# Altium footprint library IC's.PcbLib: 37 footprints (part 2 of 3)
Each footprint in its own frame and in the unit in brackets; x right, y up, seen from the top. Pads: shape width x height; smd on the part's side, far side on the other; paste and mask are expansions set on the pad; w line width, h text height; cw(c..) or ccw(c..) is an arc to the next point about the centre after c.
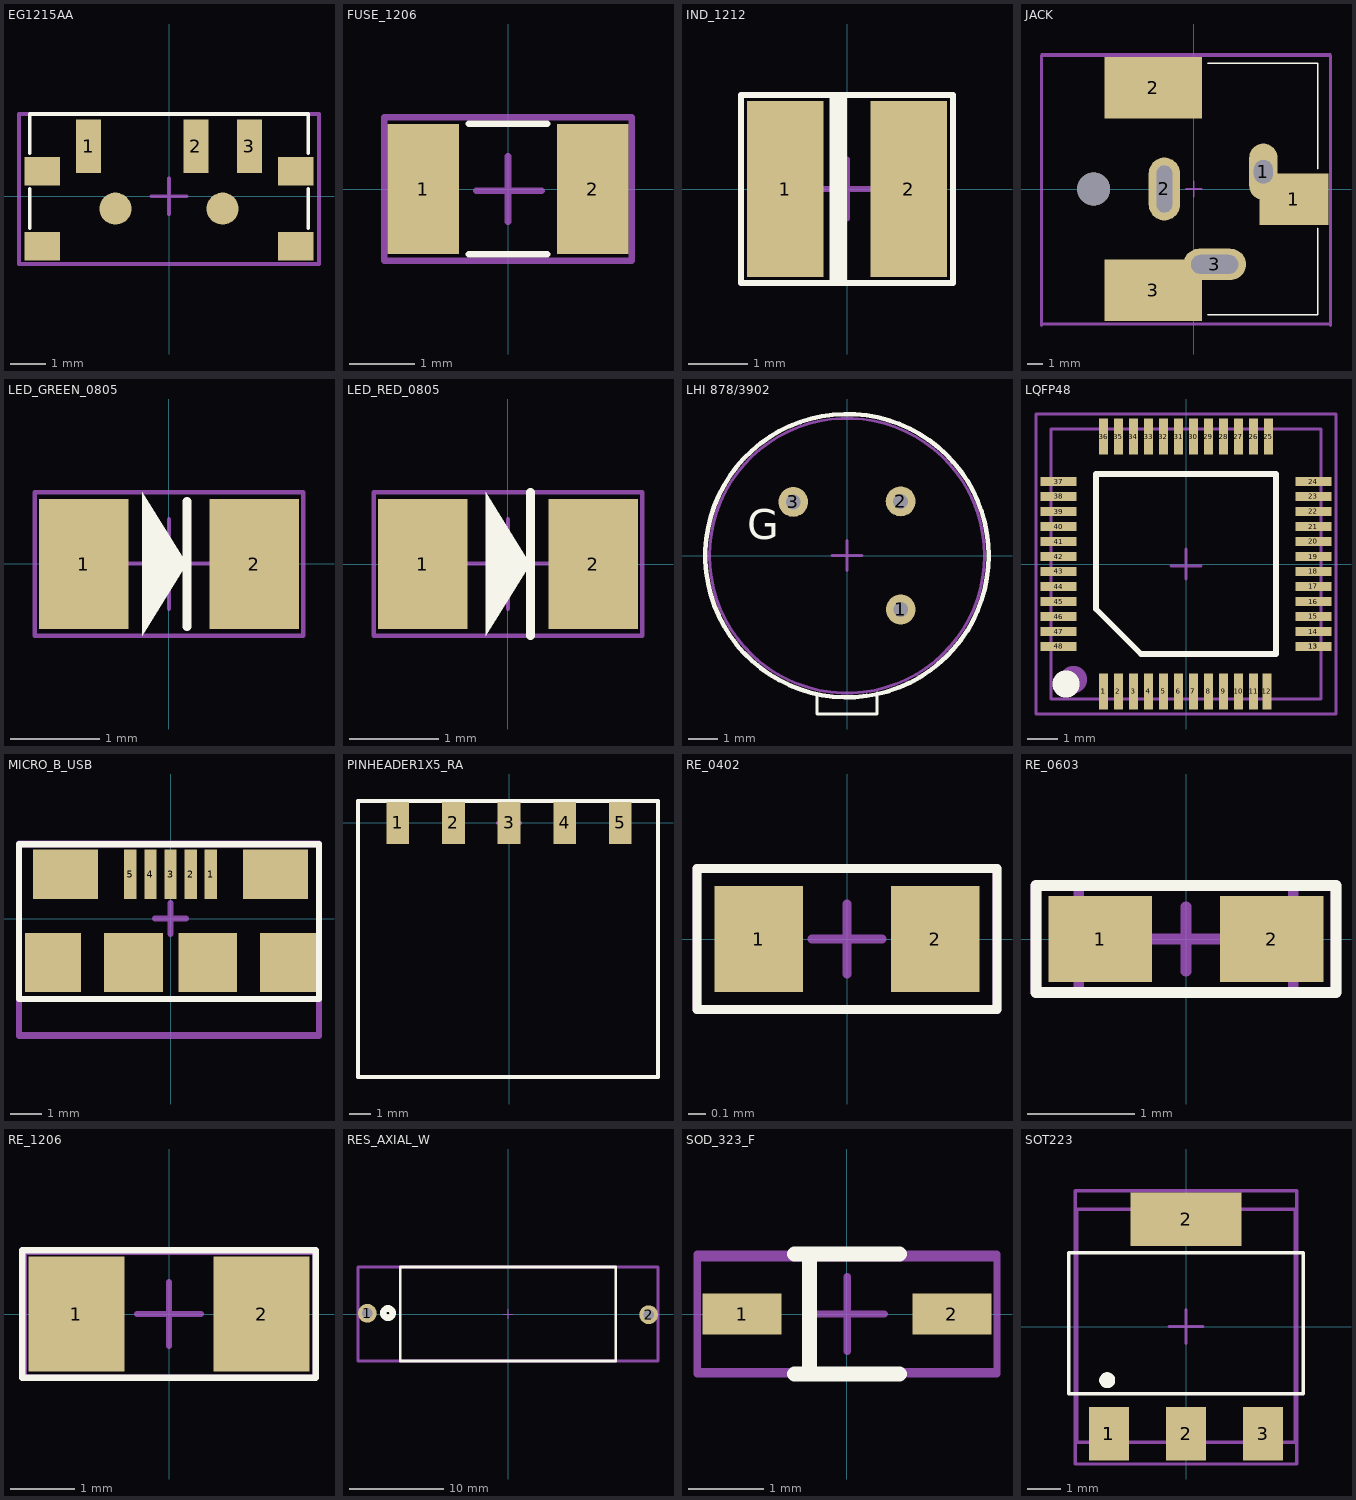
[diagram p1: the footprints below, top view; thin cyan lines are the x and y axes]

## EG1215AA [mm]
pads (9):
  rect 0.7x1.5 smd mask+0.05: 1(-2.25,1.4) 2(0.75,1.4) 3(2.25,1.4)
  rect 1x0.8 smd mask+0.05: ""(-3.55,-1.4) ""(-3.55,0.7) ""(3.55,-1.4) ""(3.55,0.7)
  round 0.9 all layers, no hole mask+0.05: ""(-1.5,-0.35) ""(1.5,-0.35)
Top Overlay:
  lines w0.1: -3.9,-0.9 -3.9,0.2 ; -3.9,1.2 -3.9,2.3 -2.3,2.3 0.1,2.3 2.3,2.3 3.9,2.3 3.9,1.2 ; 3.9,-0.9 3.9,0.2
Top Component Center:
  lines w0.1: -0.5,0 0.5,0 ; 0,-0.5 0,0.5 ; -4.2,-1.9 4.2,-1.9 4.2,2.3 -4.2,2.3 -4.2,-1.9
Top Designator:
  lines w0.1: -4.2,-1.9 4.2,-1.9 4.2,2.3 -4.2,2.3 -4.2,-1.9
  text ".Designator" at -1.246,-0.738 h1.52
3D body "EG1215AA.STEP": height 1.5, standoff -0.2, extent -3.85,-3 3.85,1.9

## FUSE_1206 [mm]
pads (2):
  rect 1.1x2 smd mask+0.05: 1(-1.3,0) 2(1.3,0)
Top Overlay:
  lines w0.1: -0.6,-1 0.6,-1 ; -0.6,1 0.6,1
Top Component Center:
  lines w0.1: -0.486,-0.024 0.514,-0.024 ; 0,-0.5 0,0.5 ; -1.9,-1.1 1.9,-1.1 1.9,1.1 -1.9,1.1 -1.9,-1.1
Top Designator:
  lines w0.1: -1.9,-1.1 1.9,-1.1 1.9,1.1 -1.9,1.1 -1.9,-1.1
3D body "FUSE_1206.step": height 0.61, standoff 0, extent -1.55,-0.775 1.55,0.775

## IND_1212 [mm]
pads (2):
  rect 1.3x3 smd mask+0.05: 1(-1.05,0) 2(1.05,0)
Top Overlay:
  rectangle: -0.3,-1.6 0,1.6
  lines w0.1: -1.8,-1.6 1.8,-1.6 1.8,1.6 -1.8,1.6 -1.8,-1.6
Top Component Center:
  lines w0.1: -0.5,0 0.5,0 ; 0,-0.5 0,0.5 ; -1.8,-1.6 1.8,-1.6 1.8,1.6 -1.8,1.6 -1.8,-1.6
Top Designator:
  lines w0.1: -1.8,-1.6 1.8,-1.6 1.8,1.6 -1.8,1.6 -1.8,-1.6
  text ".Designator" at -0.8,-0.35 h0.75
3D body "IND_1212.STEP": height 1.5, standoff 0, extent -1.5,-1.5 1.5,1.5

## JACK [mm]
pads (7):
  oval 1.8x3.6 hole 1.2 slot 1.5 at 90 deg: 1(4.425,1.1)
  rect 4.4x3.3 smd: 1(6.375,-0.65)
  rect 6.2x3.9 smd: 2(-2.575,6.45) 3(-2.575,-6.45)
  oval 2x4 hole 1 slot 3 at 90 deg: 2(-1.875,0)
  oval 4x2 hole 1.2 slot 3 at 0 deg: 3(1.325,-4.8)
  round 2.1 hole 2.1 unplated: ""(-6.375,0)
Top Overlay:
  lines w0.1: 0.9,-8 7.9,-8 7.9,-2.5 ; 7.9,8 0.9,8 7.9,8 ; 7.9,8 7.9,1.3 7.9,8
Top Component Center:
  lines w0.1: -0.5,0 0.5,0 ; 0,-0.5 0,0.5
  lines w0.2: -9.7,-8.7 -9.7,8.5 8.7,8.5 8.7,-8.7 ; -9.7,-8.6 8.7,-8.6
Top Designator:
  lines w0.1: -9.7,-8.7 -9.7,8.6 8.7,8.6 8.7,-8.7 ; -9.7,-8.6 8.7,-8.6
  text ".Designator" at -2.246,-0.738 h1.52
3D body "JACK_PJ-037AH-SMT-TR.stp": height 11.1, standoff -3.3, extent -9.575,-7.625 7.525,7.575

## LED_GREEN_0805 [mm]
pads (2):
  rect 1x1.45 smd mask+0.05: 1(-0.95,0) 2(0.95,0)
Top Overlay:
  region: -0.3,0.8 -0.3,-0.8 0.2,0
  lines w0.1: 0.2,0 0.2,-0.7 0.2,0.7
Top Component Center:
  lines w0.05: -0.487,0.006 0.513,0.006 ; 0,-0.5 0,0.5 ; -1.5,-0.8 -1.5,0.8 1.5,0.8 1.5,-0.8 -1.5,-0.8
Top Designator:
  lines w0.05: -1.5,-0.8 -1.5,0.8 1.5,0.8 1.5,-0.8 -1.5,-0.8
3D body "LED-0805-Green.step": height 0.8, standoff -0.01, extent -1.01,-0.625 1.01,0.625

## LED_RED_0805 [mm]
pads (2):
  rect 1x1.45 smd mask+0.05: 1(-0.95,0) 2(0.95,0)
Top Overlay:
  region: -0.25,0.8 -0.25,-0.8 0.25,0
  lines w0.1: 0.25,-0.8 0.25,0.8
Top Component Center:
  lines w0.05: -0.487,0.006 0.513,0.006 ; 0,-0.5 0,0.5 ; -1.5,-0.8 -1.5,0.8 1.5,0.8 1.5,-0.8 -1.5,-0.8
Top Designator:
  lines w0.05: -1.5,-0.8 -1.5,0.8 1.5,0.8 1.5,-0.8 -1.5,-0.8
3D body "LED-0805-Red.step": height 0.8, standoff -0.01, extent -1.01,-0.625 1.01,0.625

## LHI 878/3902 [mm]
pads (3):
  round 1 hole 0.5 mask+0.05: 1(1.8,-1.8) 2(1.796,1.818) 3(-1.8,1.8)
Top Overlay:
  circle w0.15: c0,0 r4.742
  lines w0.1: -1,-4.7 -1,-5.3 1,-5.3 1,-4.6
  text "G" at -3.346,0.554 h1
Top Component Center:
  circle w0.1: c0,0 r4.6
  lines w0.1: -0.5,0 0.5,0 0,0 0,-0.5 0,0.5
Top Designator:
  circle w0.1: c0,0 r4.6
  text ".Designator" at -0.946,-0.438 h1.52
3D body "LHI878.step": height 4.6, standoff -2.4, extent -4.6,-5.029 4.6,4.6

## LQFP48 [mm]
pads (50):
  rect 0.3x1.2 smd mask+0.05: 1(-2.75,-4.25) 1(-2.75,-4.25) 2(-2.25,-4.25) 3(-1.75,-4.25) 4(-1.25,-4.25) 5(-0.75,-4.25) 6(-0.25,-4.25) 7(0.25,-4.25) 8(0.75,-4.25) 9(1.25,-4.25) 10(1.75,-4.25) 11(2.25,-4.25) 12(2.7,-4.25) 25(2.75,4.25) 26(2.25,4.25) 27(1.75,4.25) 28(1.25,4.25) 29(0.75,4.25) 30(0.25,4.25) 31(-0.25,4.25) 32(-0.75,4.25) 33(-1.25,4.25) 34(-1.75,4.25) 35(-2.25,4.25) 36(-2.75,4.25)
  rect 1.2x0.3 smd mask+0.05: 13(4.25,-2.75) 13(4.25,-2.75) 14(4.25,-2.25) 15(4.25,-1.75) 16(4.25,-1.25) 17(4.25,-0.75) 18(4.25,-0.25) 19(4.25,0.25) 20(4.25,0.75) 21(4.25,1.25) 22(4.25,1.75) 23(4.25,2.25) 24(4.25,2.75) 37(-4.25,2.75) 38(-4.25,2.25) 39(-4.25,1.75) 40(-4.25,1.25) 41(-4.25,0.75) 42(-4.25,0.25) 43(-4.25,-0.25) 44(-4.25,-0.75) 45(-4.25,-1.25) 46(-4.25,-1.75) 47(-4.25,-2.25) 48(-4.25,-2.75)
Top Overlay:
  circle w0.7: c-4,-4 r0.1
  lines w0.2: -3,-1.5 -3,3 3,3 3,-3 -1.5,-3 -3,-1.5
Top 3D Body:
  circle w0.7: c-3.75,-3.85 r0.1
  lines w0.1: -4.5,-4.5 -4.5,4.5 4.5,4.5 4.5,-4.5 -4.5,-4.5
Top Component Center:
  lines w0.1: -0.507,-0.063 0.493,-0.063 ; 0,-0.5 0,0.5 ; 2.25,5 -5,5 ; -5,5 -5,-5 5,-5 5,5 -5,5
Top Designator:
  lines w0.1: -5,-5 -5,5 5,5 5,-5 -5,-5
  text ".Designator" at -0.381,-1.898 h1.52
3D body "LQFP48_Grid_0_5.STEP": height 1.6, standoff 0, extent -4.5,-4.5 4.5,4.5

## MICRO_B_USB [mm]
pads (11):
  rect 0.4x1.6 smd mask+0.05: 1(1.3,1.425) 2(0.65,1.425) 3(0,1.425) 4(-0.65,1.425) 5(-1.3,1.425)
  rect 1.8x1.9 smd mask+0.05: ""(-3.8,-1.425) ""(3.8,-1.425)
  rect 2.1x1.6 smd mask+0.05: ""(-3.4,1.425) ""(3.4,1.425)
  rect 1.9x1.9 smd mask+0.05: ""(-1.2,-1.425) ""(1.2,-1.425)
Top Overlay:
  lines w0.2: -4.9,-2.6 4.8,-2.6 4.8,2.4 -4.9,2.4 -4.9,-2.6
Top Component Center:
  lines w0.2: -4.7,-3.775 -4.9,-3.775 ; -0.5,0 0.5,0 ; 0,-0.5 0,0.5 ; -4.9,-3.775 4.8,-3.775 4.8,2.425 -4.9,2.425 -4.9,-3.775
Top Designator:
  lines w0.2: -4.9,-3.8 4.8,-3.8 4.8,2.4 -4.9,2.4 -4.9,-3.8
  text ".Designator" at -1.346,-0.738 h1.52
3D body "MICRO_B_USB.STEP": height 2.51, standoff -0.28, extent -3.955,-3.575 3.955,2.091

## PINHEADER1X5_RA [mm]
pads (5):
  rect 1.04x1.91 smd mask+0: 1(-5.08,0) 2(-2.54,0) 3(0,0) 4(2.54,0) 5(5.08,0)
Top Overlay:
  lines w0.2: -6.9,-11.6 6.8,-11.6 6.8,1 -6.9,1 -6.9,-11.6
Top Component Center:
  lines w0.2: -6.85,1 6.8,1 6.8,-11.6 -6.9,-11.6 -6.9,1 -6.8,1 ; -0.5,0 0.5,0 ; 0,-0.5 0,0.5
Top Designator:
  lines w0.2: -6.9,-11.6 -6.9,1 6.8,1 6.8,-11.6 -6.9,-11.6
  text ".Designator" at -2.046,-5.738 h1.52
3D body "SMH-105-02-L-S.stp": height 2.21, standoff -0.21, extent -6.604,-11.4 6.604,0.538

## RE_0402 [mm]
pads (2):
  rect 0.5x0.6 smd mask+0.05: 1(-0.5,0) 2(0.5,0)
Top Overlay:
  lines w0.05: -0.85,-0.4 0.85,-0.4 0.85,0.4 -0.85,0.4 -0.85,-0.4
Top Component Center:
  lines w0.05: -0.2,0 0.2,0 ; 0,-0.2 0,0.2 ; -0.85,-0.4 0.85,-0.4 0.85,0.4 -0.85,0.4 -0.85,-0.4
Top Designator:
  lines w0.05: -0.85,-0.4 0.85,-0.4 0.85,0.4 -0.85,0.4 -0.85,-0.4
  text ".Designator" at -0.6,-0.258 h0.5
3D body "RES_0402.STEP": height 0.4, standoff 0, extent -0.5,-0.25 0.5,0.25

## RE_0603 [mm]
pads (2):
  rect 0.965x0.8 smd mask+0.05: 1(-0.8,0) 2(0.8,0)
Top Overlay:
  lines w0.1: -1.4,-0.5 1.4,-0.5 1.4,0.5 -1.3,0.5 -1.4,0.5 -1.4,-0.5
Top 3D Body:
  lines w0.1: -1,-0.5 1,-0.5 1,0.5 -1,0.5 -1,-0.5
Top Component Center:
  lines w0.1: -0.3,0 0.3,0 ; 0,-0.3 0,0.3 ; -1.4,-0.5 -1.4,0.5 1.4,0.5 1.4,-0.5 -1.4,-0.5
Top Designator:
  lines w0.1: -1.4,-0.5 1.4,-0.5 1.4,0.5 -1.4,0.5 -1.4,-0.5
  text ".Designator" at -0.2,-0.167 h0.4
3D body "res0603S1.STEP": height 0.45, standoff 0, extent -0.988,-0.5 0.988,0.479

## RE_1206 [mm]
pads (2):
  rect 1.5x1.8 smd mask+0.05: 1(-1.45,0) 2(1.45,0)
Top Overlay:
  lines w0.1: -2.3,-1 -2.3,1 2.3,1 2.3,-1 -2.3,-1
Top Component Center:
  lines w0.1: -0.5,0 0.5,0 ; 0,-0.5 0,0.5 ; -2.275,-1 -2.275,0.975 2.3,0.975 2.3,-1 -2.275,-1
Top Designator:
  lines w0.1: -2.3,-1 -2.3,1 2.3,1 2.3,-1 -2.3,-1
  text ".Designator" at -0.4,-0.133 h0.5
3D body "res1206r.STEP": height 0.55, standoff 0, extent -1.934,-0.938 2.034,0.938

## RES_AXIAL_W [mm]
pads (2):
  round 2 hole 1.1 mask+0.05: 1(-15,0.075) 2(15,-0.075)
Top Overlay:
  circle w0.7: c-12.8,0.1 r0.5
  lines w0.3: -11.5,-5 -11.5,5 11.5,5 11.5,-5 -11.5,-5
Top Component Center:
  lines w0.1: -0.5,0 0.5,0 ; 0,-0.5 0,0.5
  lines w0.3: -16,-5 -16,5 16,5 16,-5 -16,-5
Top Designator:
  lines w0.3: -16,-5 16,-5 16,5 -16,5 -16,-5
  text ".Designator" at -1.746,-0.738 h1.52
3D body: height 9.65, standoff 0, extent -11,-4.75 11,4.9
3D body: height 5, standoff -4, extent -15.4,-0.315 -14.6,0.485
3D body: height 5, standoff 4.2, extent -15.3,-0.3 -6.3,0.5
3D body: height 5, standoff -4, extent 14.6,-0.485 15.4,0.315
3D body: height 5, standoff 4.2, extent 6.3,-0.5 15.3,0.3

## SOD_323_F [mm]
pads (2):
  rect 1.05x0.55 smd mask+0.05: 1(-1.4,0) 2(1.4,0)
Top Overlay:
  rectangle: -0.6,-0.8 -0.4,0.8
  lines w0.2: -0.7,-0.8 0.7,-0.8 ; -0.7,0.8 0.7,0.8
Top Component Center:
  lines w0.1: -0.5,0 0.5,0 ; 0,-0.5 0,0.5 ; -2,-0.77 -2,0.75 2,0.75 2,0.21 2,-0.77 -2,-0.77
Top Designator:
  lines w0.1: -2,-0.8 -2,0.8 2,0.8 2,-0.8 -2,-0.8
  text ".Designator" at -0.775,-0.208 h0.5
3D body "SOD-323F.STEP": height 0.79, standoff -0.08, extent -1.35,-0.68 1.35,0.67

## SOT223 [mm]
pads (5):
  rect 1.2x1.6 smd mask+0.05: 1(-2.3,-3.2) 1(-2.3,-3.2) 2(0,-3.2) 3(2.3,-3.2)
  rect 3.3x1.6 smd mask+0.05: 2(0,3.2)
Top Overlay:
  circle w0.254: c-2.35,-1.6 r0.112
  lines w0.1: -3.5,-2 -3.5,2.2 3.5,2.2 3.5,-2 -3.5,-2
Top 3D Body:
  lines w0.1: -3.25,-3.45 3.25,-3.45 3.25,3.5 -3.25,3.5 -3.25,-3.45
Top Component Center:
  lines w0.1: -0.5,0 0.5,0 ; 0,-0.5 0,0.5 ; -3.3,-4.1 -3.3,4.05 3.3,4.05 3.3,-4.1 -3.3,-4.1
Top Designator:
  lines w0.1: -3.3,-4.1 3.3,-4.1 3.3,4.05 -3.3,4.05 -3.3,-4.1
  text ".Designator" at -0.746,-0.163 h1.15
3D body "SOT223.STEP": height 1.8, standoff 0, extent -3.25,-3.499 3.25,3.499